# EAGLE library part LOGIC_74541 (library akita)
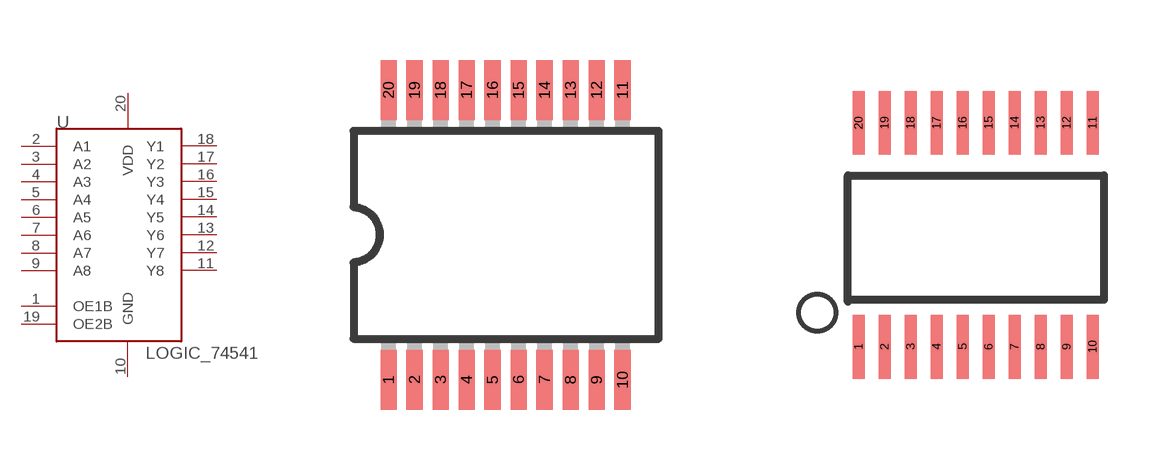
[diagram p101: symbol with the pads of SSOP20; footprints SSOP20, TSSOP20]

Designator prefix -

## LOGIC_74541DB  [SSOP20]
1  OE1B
2  A1
3  A2
4  A3
5  A4
6  A5
7  A6
8  A7
9  A8
10  GND
11  Y8
12  Y7
13  Y6
14  Y5
15  Y4
16  Y3
17  Y2
18  Y1
19  OE2B
20  VDD

## LOGIC_74541PW  [TSSOP20]
Pads as for SSOP20

## LOGIC_74541SO  [SOIC20W]
Pads as for SSOP20

## Footprint SSOP20 (pad centres in mm)
smd 0.4 x 1.5: 1 -2.925,-3.625; 2 -2.275,-3.625; 3 -1.625,-3.625; 4 -0.975,-3.625; 5 -0.325,-3.625; 6 0.325,-3.625; 7 0.975,-3.625; 8 1.625,-3.625; 9 2.275,-3.625; 10 2.925,-3.625; 11 2.925,3.625; 12 2.275,3.625; 13 1.625,3.625; 14 0.975,3.625; 15 0.325,3.625; 16 -0.325,3.625; 17 -0.975,3.625; 18 -1.625,3.625; 19 -2.275,3.625; 20 -2.925,3.625

## Footprint TSSOP20 (pad centres in mm)
smd 0.3 x 1.6: 1 -2.215,-2.8; 2 -1.565,-2.8; 3 -0.915,-2.8; 4 -0.265,-2.8; 5 0.385,-2.8; 6 1.035,-2.8; 7 1.685,-2.8; 8 2.335,-2.8; 9 2.985,-2.8; 10 3.635,-2.8; 11 3.635,2.8; 12 2.985,2.8; 13 2.335,2.8; 14 1.685,2.8; 15 1.035,2.8; 16 0.385,2.8; 17 -0.265,2.8; 18 -0.915,2.8; 19 -1.565,2.8; 20 -2.215,2.8

## Footprint SOIC20W (pad centres in mm)
smd 0.6 x 2.2: 1 -5.715,-4.6; 2 -4.445,-4.6; 3 -3.175,-4.6; 4 -1.905,-4.6; 5 -0.635,-4.6; 6 0.635,-4.6; 7 1.905,-4.6; 8 3.175,-4.6; 9 4.445,-4.6; 10 5.715,-4.6; 11 5.715,4.6; 12 4.445,4.6; 13 3.175,4.6; 14 1.905,4.6; 15 0.635,4.6; 16 -0.635,4.6; 17 -1.905,4.6; 18 -3.175,4.6; 19 -4.445,4.6; 20 -5.715,4.6